# Altium schematic symbol library CPU_STM_080816.SchLib: 227 symbols (part 2 of 5)
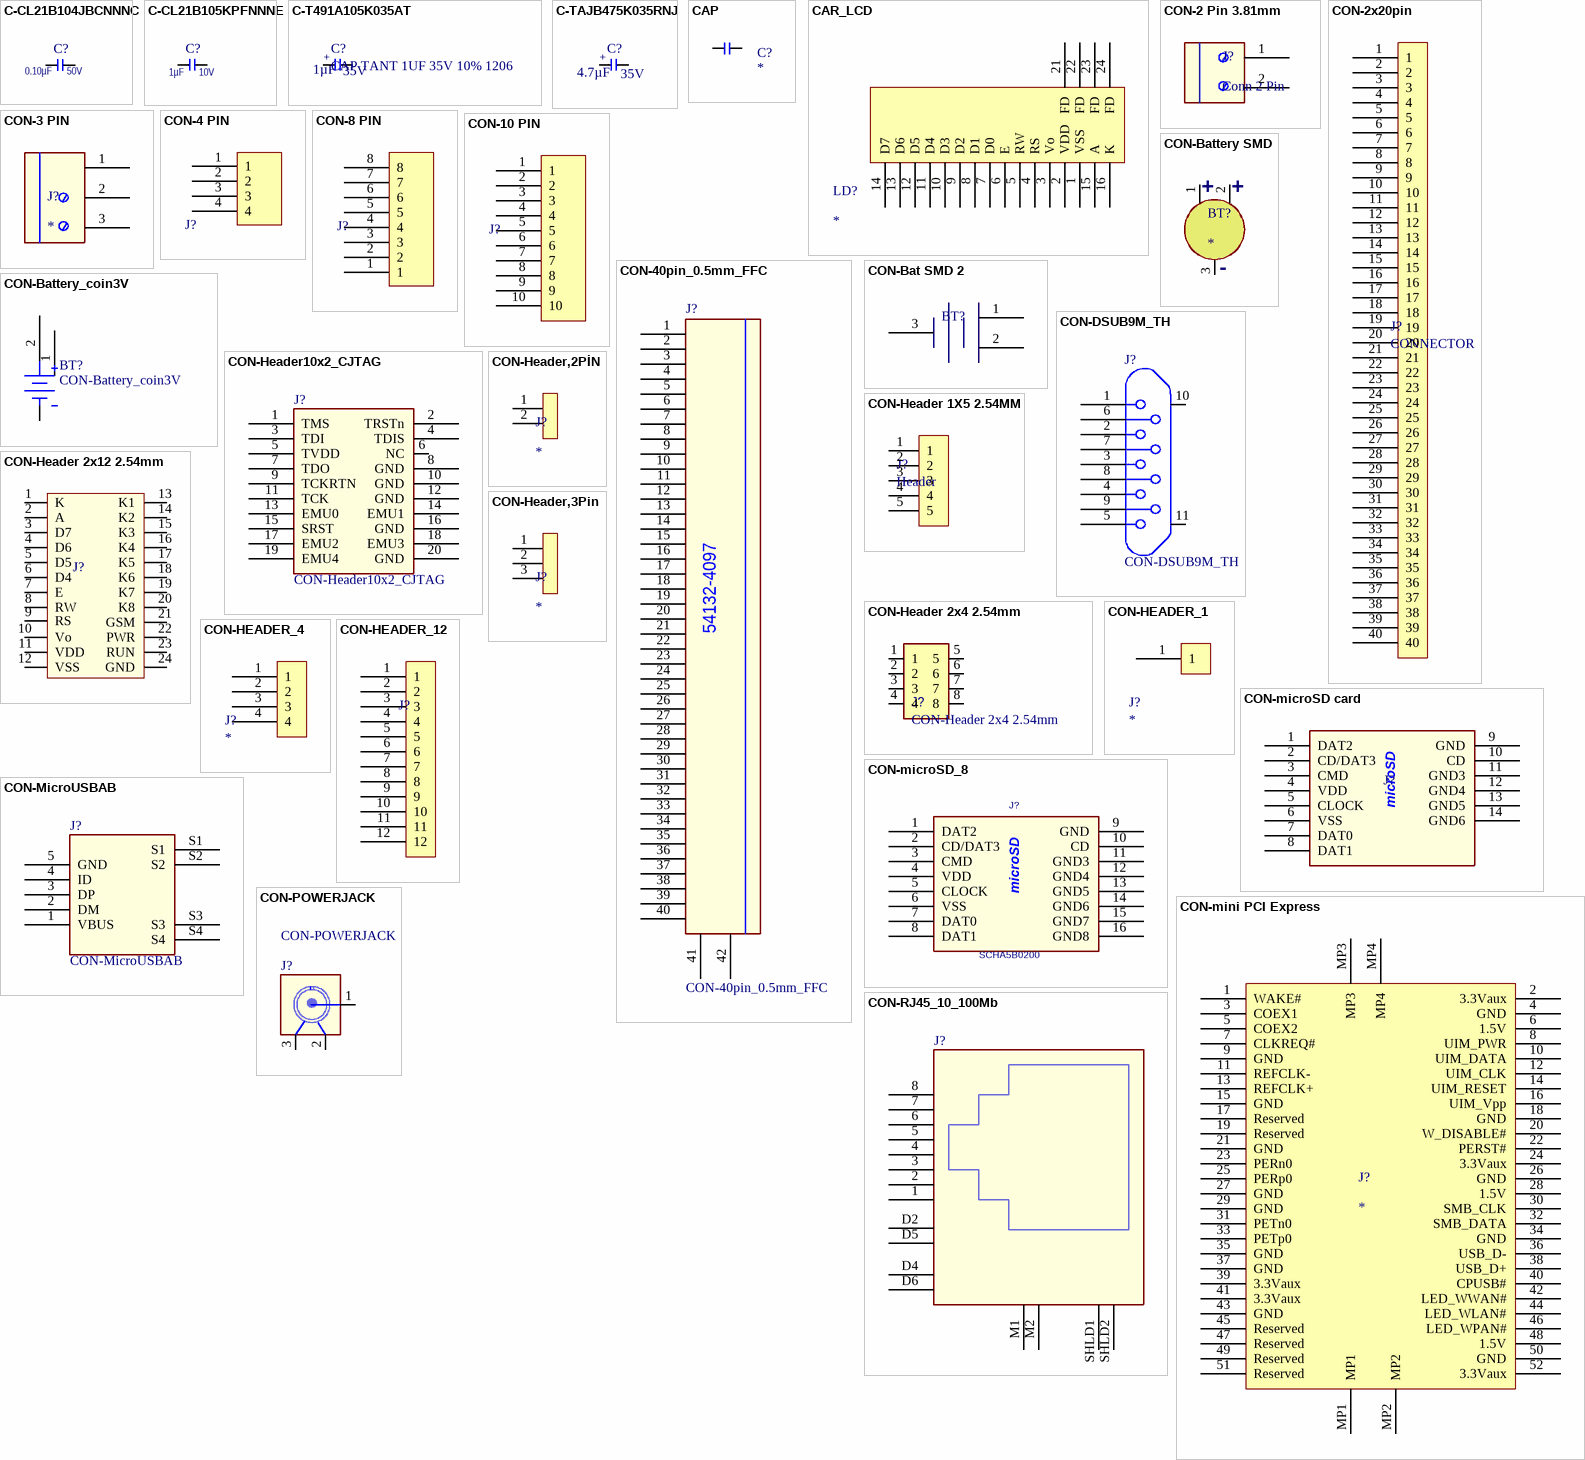
[diagram p12: symbols C-CL21B104JBCNNNC to CON-RJ45_10_100Mb]

## CON-microSD card
designator J?, comment CONN MICRO SD CARD PUSH-PUSH R/A  (value not drawn)
MOLEX 5027740891; Manufacturer: Molex, LLC; Card Type: Secure Digital - microSD™; Number of Positions: 10 (8 + 2); Connector Type: Connector and Ejector; Insertion, Removal Method: Push In, Push Out; Supplier 1: Digi-Key; Manufacturer Part Number: 5027740891; RoHS: RoHS Compliant; Category: Connectors, Interconnects; Stock 1: 0; Pricing 1: 1000=1.91922, 2000=1.85304, 3000=1.78686, 5000=1.72068 (USD); Packaging: Tape & Reel (TR); Ejector Side: -; Mounting Type: Surface Mount, Right Angle; Features: Switch; Height Above Board: 0.071" (1.80mm); Mounting Feature: Reverse - Bottom; Contact Finish: Gold; Contact Finish Thickness: 20µin (0.51µm); ComponentLink1URL: http://www.molex.com/pdm_docs/sd/5027740891_sd.pdf; ComponentLink1Description: http://www.molex.com/pdm_docs/sd/5027740891_sd.pdf; Supplier Part Number 1: WM24066TR-ND
footprint microSD (Molex-5027740891)
pins: 1 DAT2, 2 CD/DAT3, 3 CMD, 4 VDD (power), 5 CLOCK, 6 VSS (power), 7 DAT0, 8 DAT1, 9 GND (power), 10 CD, 11 GND3 (power), 12 GND4 (power), 13 GND5 (power), 14 GND6 (power)
text: microSD

## CON-microSD_8
designator J?, comment SCHA5B0200
Connector compact low-profile Push Type Micro SD; TIIntPartnumber: 2C0102; Mfr: ALPS; PartName: Conn_microSD_SCHA5B0200; Cost10K: x.00; Vendor: Mouser; DescriptiveText: Connector compact low-profile Push Type Micro SD; Cost100: x.00; MfrNum: SCHA5B0200; Supplier 1: Mouser; Supplier Part Number 1: 688-SCHA5B0200
footprint SD-MICRO-SCHA5B0300
pins: 1 DAT2, 2 CD/DAT3, 3 CMD, 4 VDD (power), 5 CLOCK, 6 VSS (power), 7 DAT0, 8 DAT1, 9 GND (power), 10 CD, 11 GND3 (power), 12 GND4 (power), 13 GND5 (power), 14 GND6 (power), 15 GND7 (power), 16 GND8 (power)
text: microSD

## CON-MicroUSBAB
designator J?
Connector Micro USB AB RA; TIIntPartnumber: 2C0088; MfrNum: ZX62-AB-5PA(11); Mfr: Hirose; Cost10K: 0.26; Cost100: 0.67; Vendor: Digikey; DescriptiveText: Connector Micro USB AB RA; PartName: ConnectorMicroUSBAB; Descriptive_Text: Connector Micro USB AB RA; Supplier 1: Digi-Key; Supplier Part Number 1: H11635CT-ND
footprint ZX62-AB-5PA
pins: 1 VBUS, 2 DM, 3 DP, 4 ID, 5 GND, S1 (power), S2 (power), S3 (power), S4 (power)

## CON-mini PCI Express
designator J?
PCI EXSPRESS; Supplier 1: Digi-Key; Supplier Part Number 1: WM3471CT-ND
footprint GSM (Board-to-Board Connector, SMT, Right Angle, Pitch 0.8mm, 52-Position, Female)
pins: 1 WAKE#, 2 3.3Vaux, 3 COEX1, 4 GND, 5 COEX2, 6 1.5V, 7 CLKREQ#, 8 UIM_PWR, 9 GND, 10 UIM_DATA, 11 REFCLK-, 12 UIM_CLK, 13 REFCLK+, 14 UIM_RESET, 15 GND, 16 UIM_Vpp, 17 Reserved, 18 GND, 19 Reserved, 20 W_DISABLE#, 21 GND, 22 PERST#, 23 PERn0, 24 3.3Vaux, 25 PERp0, 26 GND, 27 GND, 28 1.5V, 29 GND, 30 SMB_CLK, 31 PETn0, 32 SMB_DATA, 33 PETp0, 34 GND, 35 GND, 36 USB_D-, 37 GND, 38 USB_D+, 39 3.3Vaux, 40 CPUSB#, 41 3.3Vaux, 42 LED_WWAN#, 43 GND, 44 LED_WLAN#, 45 Reserved, 46 LED_WPAN#, 47 Reserved, 48 1.5V, 49 Reserved, 50 GND, 51 Reserved, 52 3.3Vaux, MP1, MP2, MP3, MP4

## CON-POWERJACK
designator J?
Jack Power Right Angle 2conductor; TIIntPartnumber: 2J0008; MfrNum: RAPC712; Mfr: Switchcraft; PartName: PwrJack_RAPC712; Cost10K: 0.90; Vendor: Digikey; DescriptiveText: Jack Power Right Angle 2conductor; Cost100: 0.90; Descriptive_Text: Jack Power Right Angle 2conductor; Supplier 1: Farnell; Supplier Part Number 1: 1617204
footprint RAPC712
pins: 1, 2, 3

## CON-RJ45_10_100Mb
designator J?  (value not drawn)
Connector MagRJ-45 Jack w/LED 10_100Mb
footprint 6605728-1
pins: 1, 2, 3, 4, 5, 6, 7, 8, D2, D4, D5, D6, M1, M2, SHLD1, SHLD2

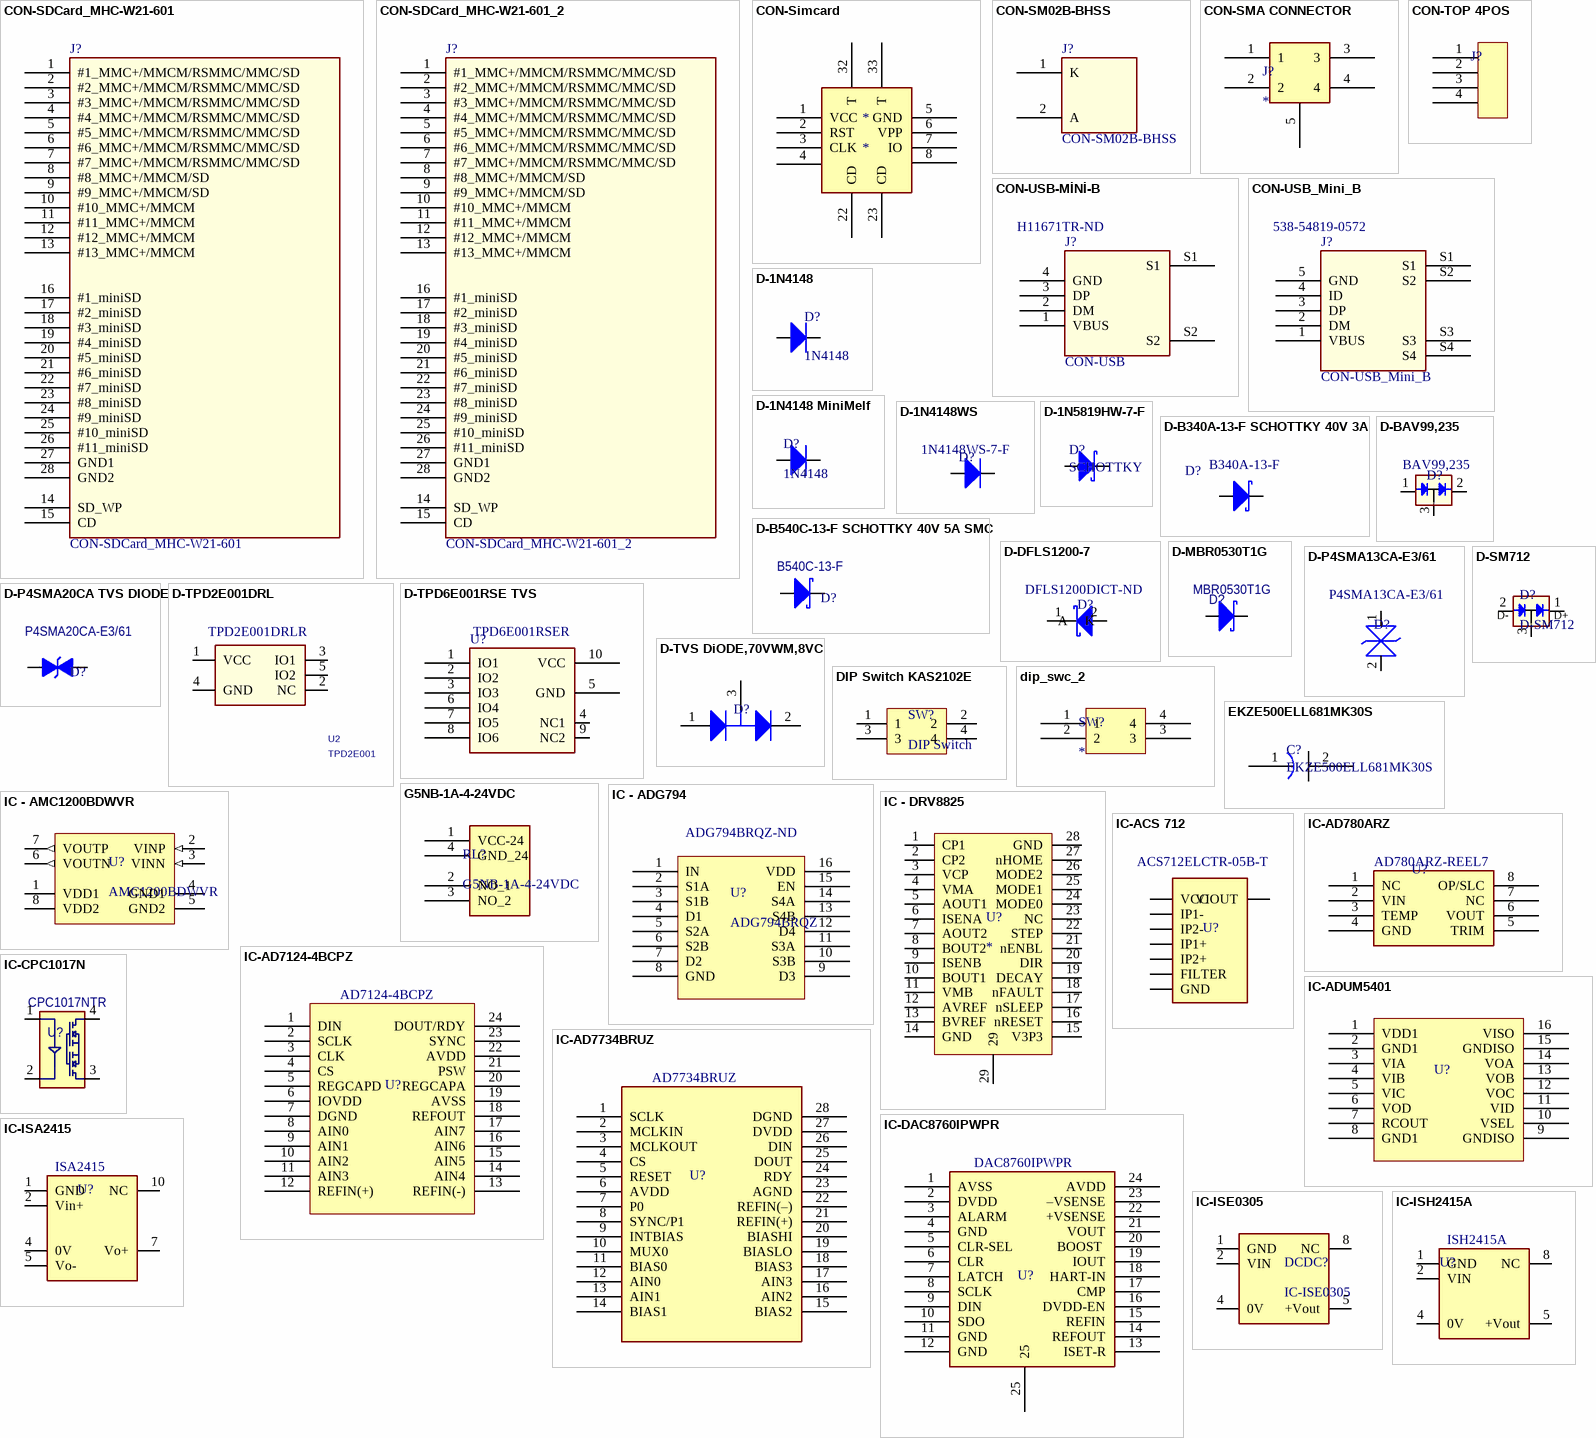
[diagram p2: symbols CON-SDCard_MHC-W21-601 to IC-ISH2415A]

## CON-SDCard_MHC-W21-601
designator J?
Connector SD/MMC; PartName: ConnectorSDMMC; Mfr: Morethanall; MfrNum: MHC-W21-601-LF; TIIntPartnumber: 2C0089; Cost100: 0.95; Cost10K: 0.29; DescriptiveText: Connector SD/MMC; Vendor: Morethanall; Descriptive_Text: Connector SD/MMC
footprint MHC-W21-601-LF
pins: 1 #1_MMC+/MMCM/RSMMC/MMC/SD, 2 #2_MMC+/MMCM/RSMMC/MMC/SD, 3 #3_MMC+/MMCM/RSMMC/MMC/SD, 4 #4_MMC+/MMCM/RSMMC/MMC/SD, 5 #5_MMC+/MMCM/RSMMC/MMC/SD, 6 #6_MMC+/MMCM/RSMMC/MMC/SD, 7 #7_MMC+/MMCM/RSMMC/MMC/SD, 8 #8_MMC+/MMCM/SD, 9 #9_MMC+/MMCM/SD, 10 #10_MMC+/MMCM, 11 #11_MMC+/MMCM, 12 #12_MMC+/MMCM, 13 #13_MMC+/MMCM, 14 SD_WP, 15 CD, 16 #1_miniSD, 17 #2_miniSD, 18 #3_miniSD, 19 #4_miniSD, 20 #5_miniSD, 21 #6_miniSD, 22 #7_miniSD, 23 #8_miniSD, 24 #9_miniSD, 25 #10_miniSD, 26 #11_miniSD, 27 GND1, 28 GND2

## CON-SDCard_MHC-W21-601_2
designator J?
Connector SD/MMC; PartName: ConnectorSDMMC; Mfr: Morethanall; MfrNum: MHC-W21-601-LF; TIIntPartnumber: 2C0089; Cost100: 0.95; Cost10K: 0.29; DescriptiveText: Connector SD/MMC; Vendor: Morethanall; Descriptive_Text: Connector SD/MMC
footprint MHC-W21-601-LF
pins: 1 #1_MMC+/MMCM/RSMMC/MMC/SD, 2 #2_MMC+/MMCM/RSMMC/MMC/SD, 3 #3_MMC+/MMCM/RSMMC/MMC/SD, 4 #4_MMC+/MMCM/RSMMC/MMC/SD, 5 #5_MMC+/MMCM/RSMMC/MMC/SD, 6 #6_MMC+/MMCM/RSMMC/MMC/SD, 7 #7_MMC+/MMCM/RSMMC/MMC/SD, 8 #8_MMC+/MMCM/SD, 9 #9_MMC+/MMCM/SD, 10 #10_MMC+/MMCM, 11 #11_MMC+/MMCM, 12 #12_MMC+/MMCM, 13 #13_MMC+/MMCM, 14 SD_WP, 15 CD, 16 #1_miniSD, 17 #2_miniSD, 18 #3_miniSD, 19 #4_miniSD, 20 #5_miniSD, 21 #6_miniSD, 22 #7_miniSD, 23 #8_miniSD, 24 #9_miniSD, 25 #10_miniSD, 26 #11_miniSD, 27 GND1, 28 GND2

## CON-Simcard
designator *
footprint SIMCARD
pins: 1 VCC, 2 RST, 3 CLK, 4, 5 GND, 6 VPP, 7 IO, 8, 22 CD, 23 CD, 32 T, 33 T

## CON-SM02B-BHSS
designator J?
Connector BHS Series 2pin PCB; TIIntPartnumber: 2C0093; MfrNum: SM02B-BHSS-1-TB; Mfr: JST; PartName: Conn_SM02B-BHSS; Cost10K: 0.82; Cost100: 1.74; Vendor: Digikey; Descriptive_Text: Connector BHS Series 2pin PCB; DescriptiveText: Connector BHS Series 2pin PCB; Supplier 1: Digi-Key; Supplier Part Number 1: 455-2876-6-ND
footprint sm_con_sm02b_bhss-1
pins: 1 K, 2 A

## CON-SMA CONNECTOR
designator J?
SMA
footprint SMA
pins: 1, 2, 3, 4, 5

## CON-TOP 4POS
designator J?
CONN FFC FPC TOP 4POS 1.00MM R/A; Manufacturer: Molex, LLC; Manufacturer Part Number: 0522070460; Flat Flex Type: FFC, FPC; Connector/Contact Type: Contacts, Top; Number of Positions: 4; Pitch: 0.039" (1.00mm); FFC, FCB Thickness: 0.30mm; Locking Feature: Slide Lock; Cable End Type: Tapered; Actuator Material: Polyphenylene Sulfide (PPS); Voltage Rating: 125V; Material Flammability Rating: UL94 V-0; Current Rating: 1A; Supplier 1: Digi-Key; RoHS: RoHS Compliant; Category: Connectors, Interconnects; Stock 1: 3025; Pricing 1: 1=1, 10=0.879, 25=0.8268, 50=0.7924, 100=0.7579, 250=0.68904, 500=0.62014 (USD); Packaging: Cut Tape (CT); Mounting Type: Surface Mount, Right Angle; Termination: Solder; Height Above Board: 0.106" (2.70mm); Contact Material: Phosphor Bronze; Contact Finish: Gold; Housing Material: Polyamide (PA46), Nylon 4/6; Features: Solder Retention, Zero Insertion Force (ZIF); Operating Temperature: -30°C ~ 85°C; ComponentLink1URL: http://www.molex.com/pdm_docs/sd/522070460_sd.pdf; ComponentLink1Description: http://www.molex.com/pdm_docs/sd/522070460_sd.pdf; Supplier Part Number 1: WM3749CT-ND
footprint HEADER,3PİN
pins: 1, 2, 3, 4

## CON-USB-MİNİ-B
designator J?, comment CON-USB  Supplier Part Number 1: H11671TR-ND
CONN RCPT USB MINI B R/A SMD; Manufacturer: Hirose Electric Co Ltd; Manufacturer Part Number: UX60SC-MB-5ST(80); Connector Type: USB - mini B; Number of Contacts: 5; Gender: Receptacle; Specifications: USB 2.0; Supplier 1: Digi-Key; RoHS: RoHS Compliant; Category: Connectors, Interconnects; Stock 1: 37500; Pricing 1: 1500=0.375, 3000=0.3625, 7500=0.35, 10500=0.3325, 15000=0.325 (USD); Packaging: Tape & Reel (TR); Mounting Type: Surface Mount, Right Angle, Horizontal; Features: Solder Retention; Ingress Protection: -; ComponentLink1URL: http://media.digikey.com/pdf/Data%20Sheets/Hirose%20PDFs/UX60S.pdf; ComponentLink1Description: http://media.digikey.com/pdf/Data%20Sheets/Hirose%20PDFs/UX60S.pdf
footprint usb_std_a_th (USB_STD_A_TH)
pins: 1 VBUS, 2 DM, 3 DP, 4 GND, S1 (power), S2 (power)

## CON-USB_Mini_B
designator J?  Supplier Part Number 1: 538-54819-0572
Connector MicroUSB AB; TIIntPartnumber: 2C0088; MfrNum: ZX62-AB-5PA(11); Mfr: Hirose; Manufacturer: Molex; Manufacturer Part Number: 54819-0572; DescriptiveText: Connector Micro USB AB RA; Cost10K: 0.26; Cost100: 0.67; Vendor: Digikey; Connector Type: Mini USB Type B Receptacle; Current Rating: 1 A; Gender: Female; Mounting Angle: Right; Number of Contacts: 5; Voltage Rating: 30 V; Insulator Colour: Black; Number of Ports: 1; Insulation Resistance: 100 MOhms; PartName: ConnectorMicroUSBAB; Descriptive_Text: Connector Micro USB AB RA; Supplier 1: Mouser; RoHS: RoHS Compliant; Category: USB Connectors; Stock 1: 15341; Pricing 1: 1=1.46, 10=1.35, 25=1.24, 50=1.19, 100=1.11, 250=0.999, 500=0.847, 800=0.723, 1600=0.704 (USD); Color: Black; Contact Plating: Gold; Features: Metal shielding for ESD protection; Operating Temperature Range: 0 C to + 50 C; Packaging: Reel; Product: Mini USB Type B Connectors; Series: 54819; Termination Style: Solder Tab; Brand: Molex; Contact Material: Copper Alloy; Flammability Rating: UL 94 V-0; Product Category: USB Connectors; Standard: USB; Standard Pack Qty: 800; RoHS - Mouser: Y; Minimum Order Quantity: 1; Reeling: True; ComponentLink1URL: http://www.mouser.com/ds/2/276/0548190572_IO_CONNECTORS-228789.pdf; ComponentLink1Description: http://www.mouser.com/ds/2/276/0548190572_IO_CONNECTORS-228789.pdf
footprint USB MINI TYPE B
pins: 1 VBUS, 2 DM, 3 DP, 4 ID, 5 GND, S1 (power), S2 (power), S3 (power), S4 (power)

## D-1N4148
designator D?, comment value 1N4148  (hidden comment: 1N4148_RAD)
Small signal diode; Supplier 1: Farnell; Supplier Part Number 1: 9843680
footprint HEADER,2PİN
pins: 1, 2

## D-1N4148 MiniMelf
designator D?, comment 1N4148
DIODES INC. - 1N4148WS-7-F - DIODE, SS SWITCH, 75V, 0.2W, SOD323; Manufacturer: Vishay Semiconductor Diodes Division; Manufacturer Part Number: LL4148-GS18; Diode Type: Standard; Current - Average Rectified (Io): 300mA (DC); Voltage - Forward (Vf) (Max) @ If: 1V @ 50mA; Speed: Fast Recovery =< 500ns, > 200mA (Io); Reverse Recovery Time (trr): 4ns; Current - Reverse Leakage @ Vr: 5µA @ 75V; Capacitance @ Vr, F: 4pF @ 0V, 1MHz; Diode Configuration: Single; Repetitive Reverse Voltage Vrrm Max: 75; Forward Current If(AV): 150; Forward Voltage VF Max: 1.25; Reverse Recovery Time trr Max: 4; Forward Surge Current Ifsm Max: 2; Diode Case Style: SOD-323; Product Range: 1N4148 Series; SVHC: No SVHC (17-Dec-2015); Supplier 1: Digi-Key; RoHS: RoHS Compliant; Category: Discrete Semiconductor Products; Stock 1: 30000; Pricing 1: 10000=0.019, 30000=0.0171, 50000=0.0152, 100000=0.01425, 250000=0.01264 (USD); Packaging: Tape & Reel (TR); Voltage - DC Reverse (Vr) (Max): 75V; Mounting Type: Surface Mount; Package / Case: DO-213AC, MINI-MELF, SOD-80; Supplier Device Package: SOD-80 MiniMELF; Operating Temperature - Junction: -65°C ~ 175°C; ComponentLink1URL: http://www.vishay.com/docs/85557/ll4148.pdf; ComponentLink1Description: http://www.vishay.com/docs/85557/ll4148.pdf; Operating Temperature Max: 150; No. of Pins: 2; MSL: MSL 1 - Unlimited; Operating Temperature Min: -65; Operating Temperature Range: -65°C to +150°C<!--FANDB--><div class="features-and-benefits-container"><div class="features-and-benefits-description"><span class="features-benefits-value">The 1N4148WS-7-F is a surface mount fast Switching Diode with matte tin-plated terminals and an UL94V-0 green molding compound molded plastic case. Solderable terminals as per MIL-STD-202, method 208 standard. Color band denotes cathode end polarity. It is suitable for general purpose switching applications.</span></div><div class="features-and-benefits-list"><ul class="features-and-benefits-list-list"><li class="features-and-benefits-list-item">Fast switching speed</li><li class="features-and-benefits-list-item">100V Non-repetitive peak reverse voltage</li><li class="features-and-benefits-list-item">53V RMS reverse voltage</li><li class="features-and-benefits-list-item">200mW Power dissipation</li><li class="features-and-benefits-list-item">625; ComponentLink2URL: http://www.farnell.com/datasheets/1911818.pdf; ComponentLink2Description: http://www.farnell.com/datasheets/1911818.pdf; Supplier Part Number 1: LL4148-GS18TR-ND
footprint D1N4148 MiniMelf
pins: 1, 2

## D-1N4148WS
designator D?  Manufacturer Part Number: 1N4148WS-7-F  (hidden comment: D-1N4148WS)
DIODES INC. - 1N4148WS-7-F - DIODE, SS SWITCH, 75V, 0.2W, SOD323; Diode Configuration: Single; Repetitive Reverse Voltage Vrrm Max: 75; Forward Current If(AV): 150; Forward Voltage VF Max: 1.25; Reverse Recovery Time trr Max: 4; Forward Surge Current Ifsm Max: 2; Diode Case Style: SOD-323; Product Range: 1N4148 Series; SVHC: No SVHC (17-Dec-2015); Diode Type: Switching; Supplier 1: Farnell; Manufacturer: DIODES INC.; RoHS: YES; Stock 1: 52116; Pricing 1: 1=0.186, 25=0.142, 100=0.0928, 250=0.0514, 500=0.0433, 1000=0.0256, 3000=0.025, 8000=0.0239 (GBP); Operating Temperature Max: 150; No. of Pins: 2; Packaging: Cut Tape; MSL: MSL 1 - Unlimited; Operating Temperature Min: -65; Operating Temperature Range: -65°C to +150°C<!--FANDB--><div class="features-and-benefits-container"><div class="features-and-benefits-description"><span class="features-benefits-value">The 1N4148WS-7-F is a surface mount fast Switching Diode with matte tin-plated terminals and an UL94V-0 green molding compound molded plastic case. Solderable terminals as per MIL-STD-202, method 208 standard. Color band denotes cathode end polarity. It is suitable for general purpose switching applications.</span></div><div class="features-and-benefits-list"><ul class="features-and-benefits-list-list"><li class="features-and-benefits-list-item">Fast switching speed</li><li class="features-and-benefits-list-item">100V Non-repetitive peak reverse voltage</li><li class="features-and-benefits-list-item">53V RMS reverse voltage</li><li class="features-and-benefits-list-item">200mW Power dissipation</li><li class="features-and-benefits-list-item">625; ComponentLink1URL: http://www.farnell.com/datasheets/1911818.pdf; ComponentLink1Description: http://www.farnell.com/datasheets/1911818.pdf; Supplier Part Number 1: 1843678
footprint SOD-323
pins: 1, 2

## D-1N5819HW-7-F
designator D?, comment SCHOTTKY
Schottky Diodes & Rectifiers Vr/40V Io/1A T/R; Manufacturer: Diodes Incorporated; Manufacturer Part Number: 1N5819HW-7-F; Configuration: Single; If - Forward Current: 1 A; Ifsm - Forward Surge Current: 25 A; Ir - Reverse Current: 1000 uA; Pd - Power Dissipation: 450 mW; Vf - Forward Voltage: 0.75 V at 3 A; Vrrm - Repetitive Reverse Voltage: 40 V; Supplier 1: Mouser; RoHS: RoHS Compliant; Category: Schottky Diodes & Rectifiers; Stock 1: 158001; Pricing 1: 1=0.524, 10=0.296, 100=0.126, 1000=0.098, 3000=0.074, 9000=0.066, 24000=0.062, 45000=0.054, 99000=0.051 (USD); Package/Case: SOD-123; Packaging: Reel; Product: Schottky Rectifiers; Series: 1N5819; Technology: Si; Brand: Diodes Incorporated; Mounting Style: SMD/SMT; Maximum Operating Temperature: + 125 C; Minimum Operating Temperature: - 65 C; Product Category: Rectifier - Schottky; Standard Pack Qty: 3000; RoHS - Mouser: Y; Minimum Order Quantity: 1; Reeling: True; ComponentLink1URL: http://www.mouser.com/ds/2/115/ds30217-71027.pdf; ComponentLink1Description: http://www.mouser.com/ds/2/115/ds30217-71027.pdf; Supplier Part Number 1: 621-1N5819HW-F
pins: 1, 2

## D-B340A-13-F SCHOTTKY 40V 3A
designator D?  Manufacturer Part Number: B340A-13-F  (hidden comment: D-B340A-13-F SCHOTTKY 40V 3A)
DIODE SCHOTTKY 40V 3A SMA; Manufacturer: Diodes Incorporated; Voltage - Forward (Vf) (Max) @ If: 500mV @ 3A; Speed: Fast Recovery =< 500ns, > 200mA (Io); Current - Reverse Leakage @ Vr: 500µA @ 40V; Capacitance @ Vr, F: 200pF @ 4V, 1MHz; Supplier 1: Digi-Key; RoHS: RoHS Compliant; Category: Discrete Semiconductor Products; Stock 1: 361505; Pricing 1: 1=0.42, 10=0.339, 100=0.231, 500=0.1729, 1000=0.1295 (USD); Packaging: Cut Tape (CT); Diode Type: Schottky; Voltage - DC Reverse (Vr) (Max): 40V; Current - Average Rectified (Io): 3A; Reverse Recovery Time (trr): -; Mounting Type: Surface Mount; Package / Case: DO-214AC, SMA; Supplier Device Package: SMA; Operating Temperature - Junction: -55°C ~ 150°C; ComponentLink1URL: http://www.diodes.com/_files/datasheets/ds30891.pdf; ComponentLink1Description: http://www.diodes.com/_files/datasheets/ds30891.pdf; Supplier Part Number 1: B340A-FDICT-ND
footprint Diode
pins: 1, 2

## D-B540C-13-F SCHOTTKY 40V 5A SMC
designator D?, comment B540C-13-F
DIODE SCHOTTKY 40V 5A SMC; Manufacturer: Diodes Incorporated; Voltage - Forward (Vf) (Max) @ If: 550mV @ 5A; Speed: Fast Recovery =< 500ns, > 200mA (Io); Current - Reverse Leakage @ Vr: 500µA @ 40V; Capacitance @ Vr, F: 300pF @ 4V, 1MHz; Diode Configuration: 1 Pair Series Connection; Current - Average Rectified (Io) (per Diode): 215mA (DC); Supplier 1: Digi-Key; RoHS: RoHS Compliant; Category: Discrete Semiconductor Products; Stock 1: 21029; Pricing 1: 1=0.5, 10=0.426, 100=0.3179, 500=0.2497, 1000=0.1925 (USD); Packaging: Cut Tape (CT); Diode Type: Schottky; Voltage - DC Reverse (Vr) (Max): 40V; Current - Average Rectified (Io): 5A; Reverse Recovery Time (trr): -; Mounting Type: Surface Mount; Package / Case: DO-214AB, SMC; Supplier Device Package: SMC; Operating Temperature - Junction: -55°C ~ 125°C; ComponentLink1URL: http://www.diodes.com/_files/datasheets/ds13012.pdf; ComponentLink1Description: http://www.diodes.com/_files/datasheets/ds13012.pdf; Supplier Part Number 1: B540C-FDICT-ND; Supplier 2: Digi-Key; Stock 2: 58594; Pricing 2: 1=0.13, 10=0.115, 100=0.0626, 500=0.0385, 1000=0.02627 (USD); ComponentLink2URL: http://www.nxp.com/documents/data_sheet/BAV99_SER.pdf; ComponentLink2Description: http://www.nxp.com/documents/data_sheet/BAV99_SER.pdf; Supplier Part Number 2: 568-5005-1-ND; Manufacturer Part Number: B540C-13-F
footprint B520C-13-F
pins: 1, 2

## D-BAV99,235
designator D?, comment Manufacturer Part Number: BAV99,235  (hidden comment: BAV99)
DIODE ARRAY GP 100V 215MA SOT23; Manufacturer: NXP Semiconductors; Diode Configuration: 1 Pair Series Connection; Diode Type: Standard; Current - Average Rectified (Io) (per Diode): 215mA (DC); Voltage - Forward (Vf) (Max) @ If: 1.25V @ 150mA; Speed: Fast Recovery =< 500ns, > 200mA (Io); Reverse Recovery Time (trr): 4ns; Current - Reverse Leakage @ Vr: 500nA @ 80V; Supplier 1: Digi-Key; RoHS: RoHS Compliant; Category: Discrete Semiconductor Products; Stock 1: 40000; Pricing 1: 10000=0.017, 30000=0.0153, 50000=0.0136, 100000=0.01275, 250000=0.01131 (USD); Packaging: Tape & Reel (TR); Voltage - DC Reverse (Vr) (Max): 100V; Mounting Type: Surface Mount; Package / Case: TO-236-3, SC-59, SOT-23-3; Supplier Device Package: SOT-23 (TO-236AB); ComponentLink1URL: http://www.nxp.com/documents/data_sheet/BAV99_SER.pdf; ComponentLink1Description: http://www.nxp.com/documents/data_sheet/BAV99_SER.pdf; Supplier Part Number 1: 568-5005-2-ND
footprint SOT23-3 - Number (SOT23-3)
pins: 1 D+ (power), 2 D- (power), 3 (power)

## D-DFLS1200-7
designator D?  Supplier Part Number 1: DFLS1200DICT-ND  (hidden comment: D-DFLS1200-7)
DIODE SCHOTTKY 200V POWERDI123; Manufacturer: Diodes Incorporated; Current - Average Rectified (Io): 1A; Voltage - Forward (Vf) (Max) @ If: 850mV @ 1A; Speed: Fast Recovery =< 500ns, > 200mA (Io); Current - Reverse Leakage @ Vr: 2µA @ 200V; Capacitance @ Vr, F: 23pF @ 5V, 1MHz; Supplier 1: Digi-Key; Manufacturer Part Number: DFLS1200-7; RoHS: RoHS Compliant; Category: Discrete Semiconductor Products; Stock 1: 18044; Pricing 1: 1=0.61, 10=0.522, 100=0.3902, 500=0.30646, 1000=0.23625 (USD); Packaging: Cut Tape (CT); Diode Type: Schottky; Voltage - DC Reverse (Vr) (Max): 200V; Reverse Recovery Time (trr): -; Mounting Type: Surface Mount; Package / Case: POWERDI®123; Supplier Device Package: PowerDI™ 123; Operating Temperature - Junction: -65°C ~ 175°C; ComponentLink1URL: http://www.diodes.com/_files/datasheets/ds30628.pdf; ComponentLink1Description: http://www.diodes.com/_files/datasheets/ds30628.pdf
footprint DFLS1200
pins: 1 K, 2 A

## D-MBR0530T1G
designator D?, comment Manufacturer Part Number: MBR0530T1G  (hidden comment: DIODE SCHOTTKY)
DIODE SCHOTTKY 30V 500MA SOD123; Manufacturer: ON Semiconductor; Voltage - Forward (Vf) (Max) @ If: 430mV @ 500mA; Speed: Fast Recovery =< 500ns, > 200mA (Io); Current - Reverse Leakage @ Vr: 130µA @ 30V; Supplier 1: Digi-Key; RoHS: RoHS Compliant; Category: Discrete Semiconductor Products; Stock 1: 95340; Pricing 1: 1=0.36, 10=0.294, 100=0.1556, 500=0.1023, 1000=0.0697 (USD); Packaging: Cut Tape (CT); Diode Type: Schottky; Voltage - DC Reverse (Vr) (Max): 30V; Current - Average Rectified (Io): 500mA; Reverse Recovery Time (trr): -; Capacitance @ Vr, F: -; Mounting Type: Surface Mount; Package / Case: SOD-123; Supplier Device Package: SOD-123; Operating Temperature - Junction: -65°C ~ 125°C; ComponentLink1URL: http://www.onsemi.com/pub_link/Collateral/MBR0530T1-D.PDF; ComponentLink1Description: http://www.onsemi.com/pub_link/Collateral/MBR0530T1-D.PDF; Supplier Part Number 1: MBR0530T1GOSCT-ND
footprint SOD-123
pins: 1, 2

## D-P4SMA13CA-E3/61
designator D?, comment P4SMA13CA-E3/61
TVS DIODE 11.1VWM 18.2VC SMA; Manufacturer: Vishay Semiconductor Diodes Division; Type: Zener; Bidirectional Channels: 1; Voltage - Reverse Standoff (Typ): 11.1V; Voltage - Breakdown (Min): 12.4V; Voltage - Clamping (Max) @ Ipp: 18.2V; Current - Peak Pulse (10/1000µs): 22A; Power - Peak Pulse: 400W; Power Line Protection: No; Supplier 1: Digi-Key; RoHS: RoHS Compliant; Category: Circuit Protection; Stock 1: 1800; Pricing 1: 1=0.36, 10=0.29, 25=0.2656, 100=0.1978, 250=0.17924, 500=0.14832 (USD); Packaging: Cut Tape (CT); Unidirectional Channels: -; Applications: General Purpose; Capacitance @ Frequency: -; Operating Temperature: -65°C ~ 150°C (TJ); Mounting Type: Surface Mount; Package / Case: DO-214AC, SMA; Supplier Device Package: DO-214AC (SMA); ComponentLink1URL: http://www.vishay.com/docs/88367/p4sma.pdf; ComponentLink1Description: http://www.vishay.com/docs/88367/p4sma.pdf; Supplier Part Number 1: P4SMA13CA-E3/61GICT-ND; Manufacturer Part Number: P4SMA13CA-E3/61
footprint DO-214
pins: 1, 2

## D-P4SMA20CA TVS DIODE
designator D?, comment Manufacturer Part Number: P4SMA20CA-E3/61  (hidden comment: TVS DIODE 15VWM 24.4VC SMC)
TVS DIODE 17.1VWM 27.7VC SMA; Manufacturer: Vishay Semiconductor Diodes Division; Type: Zener; Bidirectional Channels: 1; Voltage - Reverse Standoff (Typ): 17.1V; Voltage - Breakdown (Min): 19V; Voltage - Clamping (Max) @ Ipp: 27.7V; Current - Peak Pulse (10/1000µs): 14.4A; Power - Peak Pulse: 400W; Power Line Protection: No; Supplier 1: Digi-Key; RoHS: RoHS Compliant; Category: Circuit Protection; Stock 1: 729; Pricing 1: 1=0.36, 10=0.29, 25=0.2656, 100=0.1978, 250=0.17924, 500=0.14832 (USD); Packaging: Digi-Reel®; Part Status: Active; Unidirectional Channels: -; Applications: General Purpose; Capacitance @ Frequency: -; Operating Temperature: -65°C ~ 150°C (TJ); Mounting Type: Surface Mount; Package / Case: DO-214AC, SMA; Supplier Device Package: DO-214AC (SMA); ComponentLink1URL: http://www.vishay.com/docs/88367/p4sma.pdf; ComponentLink1Description: http://www.vishay.com/docs/88367/p4sma.pdf; Supplier Part Number 1: P4SMA20CA-E3/61GIDKR-ND
footprint DO-214Ac
pins: 1 CATHODE, 2 ANODE

## D-SM712
designator D?
TVS DIODE 12VWM 21VC SOT23; Manufacturer: Micro Commercial Co; Manufacturer Part Number: SM712-TP; Type: Zener; Bidirectional Channels: 2; Voltage - Reverse Standoff (Typ): 12V (Max); Voltage - Breakdown (Min): 13.3V; Voltage - Clamping (Max) @ Ipp: 21V; Current - Peak Pulse (10/1000µs): 5A (8/20µs); Power - Peak Pulse: 400W; Power Line Protection: No; Capacitance @ Frequency: 45pF @ 1MHz; Supplier 1: Digi-Key; RoHS: RoHS Compliant; Category: Circuit Protection; Stock 1: 35845; Pricing 1: 1=1.08, 10=0.957, 25=0.864, 100=0.756, 250=0.663, 500=0.588, 1000=0.465 (USD); Packaging: Cut Tape (CT); Unidirectional Channels: -; Applications: General Purpose; Operating Temperature: -55°C ~ 150°C (TJ); Mounting Type: Surface Mount; Package / Case: TO-236-3, SC-59, SOT-23-3; Supplier Device Package: SOT-23; ComponentLink1URL: http://www.mccsemi.com/up_pdf/SM712(SOT-23).pdf; ComponentLink1Description: http://www.mccsemi.com/up_pdf/SM712(SOT-23).pdf; Supplier Part Number 1: SM712-TPMSCT-ND
footprint SM712 Sot23-3
pins: 1 D+ (power), 2 D- (power), 3 (power)

## D-TPD2E001DRL
designator U2, comment TPD2E001  Manufacturer Part Number: TPD2E001DRLR
TVS DIODE 5.5VWM 100VC SOT5; Manufacturer: Texas Instruments; Bidirectional Channels: 2; Voltage - Reverse Standoff (Typ): 5.5V (Max); Voltage - Breakdown (Min): 11V; Power Line Protection: Yes; Supplier 1: Digi-Key; RoHS: RoHS Compliant; Category: Circuit Protection; Stock 1: 34192; Pricing 1: 1=0.58, 10=0.495, 100=0.3699, 500=0.29056, 1000=0.224 (USD); Packaging: Cut Tape (CT); Type: Steering (Rail to Rail); Unidirectional Channels: -; Voltage - Clamping (Max) @ Ipp: -; Current - Peak Pulse (10/1000µs): -; Power - Peak Pulse: -; Applications: Ethernet; Capacitance @ Frequency: -; Operating Temperature: -40°C ~ 85°C (TA); Mounting Type: Surface Mount; Package / Case: SOT-553; Supplier Device Package: 5-SOT; ComponentLink1URL: http://www.ti.com/lit/ds/symlink/tpd2e001.pdf; ComponentLink1Description: http://www.ti.com/lit/ds/symlink/tpd2e001.pdf; Supplier Part Number 1: 296-21883-1-ND
footprint U_5_DRL
pins: 1 VCC (power), 2 NC, 3 IO1, 4 GND (power), 5 IO2

## D-TPD6E001RSE TVS
designator U?  Manufacturer Part Number: TPD6E001RSER  (hidden comment: *)
TVS DIODE 10UQFN; Manufacturer: Texas Instruments; Bidirectional Channels: 6; Voltage - Reverse Standoff (Typ): 5V (Max); Voltage - Breakdown (Min): 11V; Power Line Protection: Yes; Supplier 1: Digi-Key; RoHS: RoHS Compliant; Category: Circuit Protection; Stock 1: 43728; Pricing 1: 1=0.54, 10=0.464, 100=0.3468, 500=0.2724, 1000=0.21 (USD); Packaging: Cut Tape (CT); Type: Steering (Rail to Rail); Unidirectional Channels: -; Voltage - Clamping (Max) @ Ipp: -; Current - Peak Pulse (10/1000µs): -; Power - Peak Pulse: -; Applications: General Purpose; Capacitance @ Frequency: -; Operating Temperature: -40°C ~ 85°C (TA); Mounting Type: Surface Mount; Package / Case: 10-UFQFN; Supplier Device Package: 10-UQFN (2.0x1.5); ComponentLink1URL: http://www.ti.com/lit/ds/symlink/tpd6e001.pdf; ComponentLink1Description: http://www.ti.com/lit/ds/symlink/tpd6e001.pdf; Supplier Part Number 1: 296-21888-1-ND
footprint U_10_RSE
pins: 1 IO1, 2 IO2, 3 IO3, 4 NC1, 5 GND (power), 6 IO4, 7 IO5, 8 IO6, 9 NC2, 10 VCC (power)

## D-TVS DiODE,70VWM,8VC
designator D?, comment DESD1P0RFW-7  (value not drawn)
TVS DIODE 70VWM 8VC SOT323; Manufacturer: Diodes Incorporated; Type: Steering (Rail to Rail); Bidirectional Channels: 1; Voltage - Reverse Standoff (Typ): 70V (Max); Voltage - Clamping (Max) @ Ipp: 8V; Current - Peak Pulse (10/1000µs): 15A (8/20µs); Power Line Protection: No; Capacitance @ Frequency: 1pF @ 1MHz; Supplier 1: Digi-Key; Manufacturer Part Number: DESD1P0RFW-7; RoHS: RoHS Compliant; Category: Circuit Protection; Stock 1: 9057; Pricing 1: 1=0.48, 10=0.354, 100=0.2004, 500=0.13288, 1000=0.10191 (USD); Packaging: Cut Tape (CT); Part Status: Active; Unidirectional Channels: -; Voltage - Breakdown (Min): -; Power - Peak Pulse: -; Applications: General Purpose; Operating Temperature: -65°C ~ 150°C (TJ); Mounting Type: Surface Mount; Package / Case: SC-70, SOT-323; Supplier Device Package: SOT-323; ComponentLink1URL: http://www.diodes.com/_files/datasheets/DESD1P0RFW.pdf; ComponentLink1Description: http://www.diodes.com/_files/datasheets/DESD1P0RFW.pdf; Supplier Part Number 1: DESD1P0RFW-7DICT-ND
footprint NXP-SOT323_M (SOT23, 3-Leads, Body 2.2x1.35mm, Pitch 0.65mm, IPC Low Density)
pins: 1 A, 2 K, 3 C

## DIP Switch KAS2102E
designator SW?, comment DIP Switch
SWITCH SLIDE DIP SPST 25MA 24V; Manufacturer: E-Switch; Manufacturer Part Number: KAS2102ET; Number of Positions: 2; Voltage Rating: 24VDC; Actuator Type: Slide (Standard); Actuator Level: Raised; Pitch: 0.100" (2.54mm), Full; Washable: Yes; Body Material: Polybutylene Terephthalate (PBT), Glass Filled; Mechanical Life: 2,000 Cycles; Supplier 1: Digi-Key; RoHS: RoHS Compliant; Category: Switches; Stock 1: 10973; Pricing 1: 1=1.47, 10=1.387, 50=1.2452, 100=1.2169, 250=1.0754, 500=1.0188, 1000=0.9056, 5000=0.7924 (USD); Packaging: Tube; Circuit: SPST; Current Rating: 25mA; Contact Material: Phosphor Bronze; Contact Finish: Gold; Height Above Board: 0.389" (9.90mm); Mounting Type: Through Hole, Right Angle; Termination Style: PC Pin; Features: Tape Seal; Length: 0.254" (6.44mm); Operating Temperature: -40°C ~ 85°C; Electrical Life: 2,000 Cycles; ComponentLink1URL: http://spec_sheets.e-switch.com/specs/N321021.pdf; ComponentLink1Description: http://spec_sheets.e-switch.com/specs/N321021.pdf; Supplier Part Number 1: EG4507-ND
footprint DIP Switch (SWITCH SLIDE DIP SPST 25MA 24V)
pins: 1, 2, 3, 4

## dip_swc_2
designator SW?
footprint dip_swc_2 (219-8MST)
pins: 1, 2, 3, 4

## EKZE500ELL681MK30S
designator C?
Aluminium Electrolytic Capacitors - Leaded 50volts 680uF 12.5X30; Manufacturer: United Chemi-Con; Tolerance: 20 %; Voltage Rating DC: 50 V; Case Diameter: 12.5 mm; Case Length: 30 mm; Supplier 1: Mouser; Manufacturer Part Number: EKZE500ELL681MK30S; RoHS: RoHS Compliant; Category: Aluminium Electrolytic Capacitors - Leaded; Stock 1: 2082; Pricing 1: 1=1.12, 10=0.886, 100=0.591, 500=0.502, 1000=0.443, 2000=0.413, 5000=0.398, 10000=0.384, 25000=0.374 (USD); Capacitance: 680 uF; Dimensions: 12.5 mm Dia. x 30 mm L; Packaging: Bulk; Product: Low Impedance Electrolytic Capacitors; Series: KZE; Termination Style: Radial; Brand: United Chemi-Con; Lead Spacing: 5 mm; Maximum Operating Temperature: + 105 C; Product Category: Aluminum Electrolytic Capacitors; Standard Pack Qty: 1000; RoHS - Mouser: Y; Minimum Order Quantity: 1; Reeling: False; ComponentLink1URL: http://www.mouser.com/ds/2/420/al-kze-e-140701-514740.pdf; ComponentLink1Description: http://www.mouser.com/ds/2/420/al-kze-e-140701-514740.pdf; Supplier Part Number 1: 661-EKZE500ELL681MK3
footprint HEADER,2PİN
pins: 1, 2

## G5NB-1A-4-24VDC
designator RL?
footprint N5GB
pins: 1 VCC-24, 2 NO_1, 3 NO_2, 4 GND_24

## IC - ADG794
designator U?, comment ADG794BRQZ  Supplier Part Number 1: ADG794BRQZ-ND
IC MUX/DEMUX QUAD 2X1 16QSOP; Manufacturer: Analog Devices Inc.; Switch Circuit: SPDT; Multiplexer/Demultiplexer Circuit: 2:1; Number of Circuits: 4; On-State Resistance (Max): 7 Ohm; Channel-to-Channel Matching (&Delta;Ron): 400 mOhm; Voltage - Supply, Single (V+): 3.3V, 5V; Switch Time (Ton, Toff) (Max): 7ns, 5ns (Typ); -3db Bandwidth: 300MHz; Charge Injection: 7.5pC; Channel Capacitance (CS(off), CD(off)): 8pF, 14pF; Current - Leakage (IS(off)) (Max): 1pA (Typ); Crosstalk: -70dB @ 10MHz; Supplier 1: Digi-Key; Manufacturer Part Number: ADG794BRQZ; RoHS: RoHS Compliant; Category: Integrated Circuits (ICs); Stock 1: 107; Pricing 1: 1=2.1, 98=1.77939, 196=1.51602, 588=1.24556, 1078=1.03204, 2548=0.96086, 5000=0.92528 (USD); Packaging: Tube; Part Status: Active; Voltage - Supply, Dual (V±): -; Operating Temperature: -40°C ~ 85°C (TA); Package / Case: 16-SSOP (0.154", 3.90mm Width); Supplier Device Package: 16-QSOP; ComponentLink1URL: http://www.analog.com/media/en/technical-documentation/data-sheets/ADG794.pdf; ComponentLink1Description: http://www.analog.com/media/en/technical-documentation/data-sheets/ADG794.pdf
footprint ADI-RQ-16_M (SOP, 16-Leads, Body 4.9x3.9mm, Pitch 0.64mm, IPC Low Density)
pins: 1 IN, 2 S1A, 3 S1B, 4 D1, 5 S2A, 6 S2B, 7 D2, 8 GND, 9 D3, 10 S3B, 11 S3A, 12 D4, 13 S4B, 14 S4A, 15 EN, 16 VDD

## IC - AMC1200BDWVR
designator U?, comment AMC1200BDWVR
Manufacturer: Texas Instruments; Amplifier Type: Isolation; Number of Circuits: 1; Output Type: Differential; -3db Bandwidth: 100kHz; Voltage - Input Offset: 200µV; Current - Supply: 5.4mA; Current - Output / Channel: 20mA; Voltage - Supply, Single/Dual (±): 2.7 V ~ 5.5 V; Supplier 1: Digi-Key; Manufacturer Part Number: AMC1200BDWVR; RoHS: RoHS Compliant; Category: Integrated Circuits (ICs); Stock 1: 3135; Pricing 1: 1=5.41, 10=4.851, 100=3.9798, 500=3.3858, 1000=2.475 (USD); Packaging: Cut Tape (CT); Part Status: Active; Slew Rate: -; Gain Bandwidth Product: -; Current - Input Bias: -; Operating Temperature: -40°C ~ 105°C; Mounting Type: Surface Mount; Package / Case: 8-SOIC (0.295", 7.50mm Width); Supplier Device Package: 8-SOIC; ComponentLink1URL: http://www.ti.com/lit/ds/symlink/amc1200.pdf; ComponentLink1Description: http://www.ti.com/lit/ds/symlink/amc1200.pdf; Supplier Part Number 1: 296-39898-1-ND
footprint TI-D8_N (SOIC, 8-Leads, Body 4.9x3.9mm, Pitch 1.27mm, IPC Medium Density)
pins: 1 VDD1 (power) "High-side power supply", 2 VINP (in) "Noninverting analog input", 3 VINN (in) "Inverting analog input", 4 GND1 (power) "High-side analog ground", 5 GND2 (power) "Low-side analog ground", 6 VOUTN (out) "Inverting analog output", 7 VOUTP (out) "Noninverting analog output", 8 VDD2 (power) "Low-side power supply"

## IC - DRV8825
designator U?
pins: 1 CP1, 2 CP2, 3 VCP, 4 VMA, 5 AOUT1, 6 ISENA, 7 AOUT2, 8 BOUT2, 9 ISENB, 10 BOUT1, 11 VMB, 12 AVREF, 13 BVREF, 14 GND, 15 V3P3, 16 nRESET, 17 nSLEEP, 18 nFAULT, 19 DECAY, 20 DIR, 21 nENBL, 22 STEP, 23 NC, 24 MODE0, 25 MODE1, 26 MODE2, 27 nHOME, 28 GND, 29

## IC-ACS 712
designator U?, comment SENSOR CURRENT HALL 5A AC/DC  (value not drawn)
ACS712ELCTR-05B-T; Manufacturer: Allegro MicroSystems, LLC; Sensor Type: Hall Effect, Open Loop; Number of Channels: 1; Output: Ratiometric, Voltage; Sensitivity: 185mV/A; Frequency: DC ~ 80kHz; Linearity: ±1.5%; Voltage - Supply: 5V; Response Time: 5µs; Current - Supply (Max): 13mA; Polarization: Bidirectional; RoHS: RoHS Compliant; Category: Sensors, Transducers; Packaging: Cut Tape (CT); For Measuring: AC/DC; Current - Sensing: 5A; Accuracy: ±1.5%; Operating Temperature: -40°C ~ 85°C; Mounting Type: Surface Mount; Package / Case: 8-SOIC (0.154", 3.90mm Width); ComponentLink1URL: http://www.allegromicro.com/en/Products/Part_Numbers/0712/0712.pdf; ComponentLink1Description: http://www.allegromicro.com/en/Products/Part_Numbers/0712/0712.pdf; Supplier 1: Digi-Key; Stock 1: 19223; Pricing 1: 1=4.82, 10=3.76, 50=2.6962, 100=2.6252, 250=2.41232, 500=2.19946, 1000=2.05755 (USD); Supplier Part Number 1: 620-1189-6-ND; Manufacturer Part Number: ACS712ELCTR-05B-T
footprint SOIC-8
pins: 1 IP1+, 2 IP2+, 3 IP1-, 4 IP2-, 5 GND, 6 FILTER, 7 VIOUT, 8 VCC

## IC-AD780ARZ
designator U?, comment Manufacturer Part Number: AD780ARZ-REEL7  (hidden comment: AD780ARZ)
IC VREF SERIES/SHUNT PROG 8SOIC; Manufacturer: Analog Devices Inc.; Reference Type: Series, Shunt; Output Type: Programmable; Voltage - Output (Min/Fixed): ±2.5V, ±3V; Current - Output: 10mA; Tolerance: ±0.2%, ±0.17%; Temperature Coefficient: 7ppm/°C; Noise - 0.1Hz to 10Hz: 4µVp-p; Voltage - Input: 4 V ~ 36 V; Current - Supply: 1mA; Supplier 1: Digi-Key; RoHS: RoHS Compliant; Category: Integrated Circuits (ICs); Stock 1: 1014; Pricing 1: 1=10.53, 10=9.545, 100=7.8685, 500=6.8796 (USD); Packaging: Cut Tape (CT); Voltage - Output (Max): -; Noise - 10Hz to 10kHz: -; Current - Cathode: 1mA; Operating Temperature: -40°C ~ 85°C (TA); Mounting Type: Surface Mount; Package / Case: 8-SOIC (0.154", 3.90mm Width); Supplier Device Package: 8-SOIC; ComponentLink1URL: http://www.analog.com/media/en/technical-documentation/data-sheets/AD780.pdf; ComponentLink1Description: http://www.analog.com/media/en/technical-documentation/data-sheets/AD780.pdf; Supplier Part Number 1: AD780ARZ-REEL7CT-ND
footprint SOIC-8
pins: 1 NC, 2 VIN, 3 TEMP, 4 GND, 5 TRIM, 6 VOUT, 7 NC, 8 OP/SLC

## IC-AD7124-4BCPZ
designator U?, comment AD7124-4BCPZ
IC ADC 24BIT 4CH TSSOP; Manufacturer: Analog Devices Inc.; Number of Bits: 24; Sampling Rate (Per Second): 19.2k; Number of Inputs: 4, 7; Input Type: Differential, Single Ended; Data Interface: SPI; Configuration: MUX-PGA-ADC; Number of A/D Converters: 1; Architecture: Sigma-Delta; Reference Type: External, Internal; Voltage - Supply, Analog: ±1.8V, 2.7 V ~ 3.6 V; Voltage - Supply, Digital: 1.65 V ~ 3.6 V; Supplier 1: Digi-Key; RoHS: RoHS Compliant; Category: Integrated Circuits (ICs); Stock 1: 46; Pricing 1: 1=10.3, 10=9.307, 100=7.7056, 500=6.70996, 1000=5.84415, 2500=5.6277, 5000=5.41125 (USD); Packaging: Tray; Part Status: Active; Ratio - S/H:ADC: -; Features: PGA, Temperature Sensor; Operating Temperature: -40°C ~ 105°C; Package / Case: 32-WFQFN Exposed Pad, CSP; Supplier Device Package: 32-LFCSP-WQ (5x5); ComponentLink1URL: http://www.analog.com/media/en/technical-documentation/data-sheets/AD7124-4.pdf; ComponentLink1Description: http://www.analog.com/media/en/technical-documentation/data-sheets/AD7124-4.pdf; Supplier 2: Digi-Key; Stock 2: 146; Pricing 2: 1=10.3, 62=8.87452, 124=7.70565, 558=6.70995, 1054=5.84415, 2542=5.6277, 5000=5.41125 (USD); Supplier Part Number 2: AD7124-4BRUZ-ND; Manufacturer Part Number: AD7124-4BCPZ
footprint ADI-RU-24_M (SOP, 24-Leads, Body 7.8x4.4mm, Pitch 0.65mm, IPC Low Density)
pins: 1 DIN, 2 SCLK, 3 CLK, 4 CS, 5 REGCAPD, 6 IOVDD, 7 DGND, 8 AIN0, 9 AIN1, 10 AIN2, 11 AIN3, 12 REFIN(+), 13 REFIN(-), 14 AIN4, 15 AIN5, 16 AIN6, 17 AIN7, 18 REFOUT, 19 AVSS, 20 REGCAPA, 21 PSW, 22 AVDD, 23 SYNC, 24 DOUT/RDY

## IC-AD7734BRUZ
designator U?, comment AD7734BRUZ
IC ADC 24BIT 4-CH 28-TSSOP; Manufacturer: Analog Devices Inc.; Number of Bits: 24; Sampling Rate (Per Second): 15.4k; Number of Inputs: 4; Input Type: Single Ended; Data Interface: SPI, DSP; Configuration: MUX-ADC; Number of A/D Converters: 1; Architecture: Sigma-Delta; Reference Type: External; Voltage - Supply, Analog: 5V; Voltage - Supply, Digital: 2.7 V ~ 3.6 V, 5V; Supplier 1: Digi-Key; RoHS: RoHS Compliant; Category: Integrated Circuits (ICs); Stock 1: 383; Pricing 1: 1=20.47, 10=18.882, 100=16.1242, 500=14.63904, 1000=13.7904, 2500=13.36608, 5000=13.056 (USD); Packaging: Tube; Ratio - S/H:ADC: -; Features: True Bipolar; Operating Temperature: -40°C ~ 105°C; Package / Case: 28-TSSOP (0.173", 4.40mm Width); Supplier Device Package: 28-TSSOP; ComponentLink1URL: http://www.analog.com/media/en/technical-documentation/data-sheets/AD7734.pdf; ComponentLink1Description: http://www.analog.com/media/en/technical-documentation/data-sheets/AD7734.pdf; Supplier Part Number 1: AD7734BRUZ-ND; Manufacturer Part Number: AD7734BRUZ
footprint TSSOP-28 (TSOP, 28-Leads, Body 9.7x4.4mm, Pitch 0.65mm, IPC High Density)
pins: 1 SCLK, 2 MCLKIN, 3 MCLKOUT, 4 CS, 5 RESET, 6 AVDD, 7 P0, 8 SYNC/P1, 9 INTBIAS, 10 MUX0, 11 BIAS0, 12 AIN0, 13 AIN1, 14 BIAS1, 15 BIAS2, 16 AIN2, 17 AIN3, 18 BIAS3, 19 BIASLO, 20 BIASHI, 21 REFIN(+), 22 REFIN(–), 23 AGND, 24 RDY, 25 DOUT, 26 DIN, 27 DVDD, 28 DGND

## IC-ADUM5401
designator U?, comment ADUM5401ARWZ-RL  (value not drawn)
DGTL ISO 2.5KV GEN PURP 16SOIC; Manufacturer: Analog Devices Inc.; Isolated Power: Yes; Number of Channels: 4; Inputs - Side 1/Side 2: 3/1; Channel Type: Unidirectional; Voltage - Isolation: 2500Vrms; Common Mode Transient Immunity (Min): 25kV/µs; Data Rate: 1Mbps; Propagation Delay tpLH / tpHL (Max): 100ns, 100ns; Pulse Width Distortion (Max): 40ns; Rise / Fall Time (Typ): 2.5ns, 2.5ns; Voltage - Supply: 3 V ~ 5.5 V; Supplier 1: Digi-Key; Manufacturer Part Number: ADUM5401ARWZ-RL; RoHS: RoHS Compliant; Category: Isolators; Stock 1: 2137; Pricing 1: 1=10.71, 10=9.818, 100=8.2883, 500=7.35092 (USD); Packaging: Cut Tape (CT); Part Status: Active; Technology: Magnetic Coupling; Type: General Purpose; Operating Temperature: -40°C ~ 105°C; Package / Case: 16-SOIC (0.295", 7.50mm Width); Supplier Device Package: 16-SOIC; ComponentLink1URL: http://www.analog.com/media/en/technical-documentation/data-sheets/ADuM5401_5402_5403_5404.pdf; ComponentLink1Description: http://www.analog.com/media/en/technical-documentation/data-sheets/ADuM5401_5402_5403_5404.pdf; Supplier Part Number 1: ADUM5401ARWZ-RLCT-ND
footprint ADI-RW-16_M (SOIC, 16-Leads, Body 10.3x7.5mm, Pitch 1.27mm, IPC Low Density)
pins: 1 VDD1, 2 GND1, 3 VIA, 4 VIB, 5 VIC, 6 VOD, 7 RCOUT, 8 GND1, 9 GNDISO, 10 VSEL, 11 VID, 12 VOC, 13 VOB, 14 VOA, 15 GNDISO, 16 VISO

## IC-CPC1017N
designator U?, comment CPC1017NTR
RELAY OPTOMOS SP-NO 100MA 4-SOP; Manufacturer: IXYS Integrated Circuits Division; Circuit: SPST-NO (1 Form A); Output Type: AC, DC; On-State Resistance (Max): 16 Ohm; Voltage - Input: 1.2VDC; Voltage - Load: 0 ~ 60 V; Supplier 1: Digi-Key; RoHS: RoHS Compliant; Category: Relays; Stock 1: 86000; Pricing 1: 2000=0.42, 6000=0.399, 10000=0.384, 50000=0.36 (USD); Packaging: Tape & Reel (TR); Part Status: Active; Load Current: 100mA; Mounting Type: Surface Mount; Termination Style: Gull Wing; Package / Case: 4-SOP (0.150", 3.81mm); Supplier Device Package: 4-SOP; Relay Type: Relay; ComponentLink1URL: http://www.ixysic.com/home/pdfs.nsf/www/CPC1017N.pdf/$file/CPC1017N.pdf; ComponentLink1Description: http://www.ixysic.com/home/pdfs.nsf/www/CPC1017N.pdf/$file/CPC1017N.pdf; Supplier Part Number 1: CLA233TR-ND; Manufacturer Part Number: CPC1017NTR
pins: 1, 2, 3, 4

## IC-DAC8760IPWPR
designator U?  Manufacturer Part Number: DAC8760IPWPR  (hidden comment: IC-DAC8760IPWPR)
IC DAC 1CH 16BIT PROGR 24HTSSOP; Manufacturer: Texas Instruments; Number of Bits: 16; Number of D/A Converters: 1; Settling Time: 25µs (Typ); Output Type: Voltage or Current - Buffered; Differential Output: No; Data Interface: SPI, DSP; Reference Type: External, Internal; Voltage - Supply, Analog: 10 V ~ 36 V, -18V; Voltage - Supply, Digital: 2.7 V ~ 5.5 V; INL/DNL (LSB): -, ±1 (Max); Architecture: String DAC; Supplier 1: Digi-Key; RoHS: RoHS Compliant; Category: Integrated Circuits (ICs); Stock 1: 386; Pricing 1: 1=8.8, 10=7.972, 100=6.5715, 500=5.7456, 1000=4.48875 (USD); Packaging: Cut Tape (CT); Operating Temperature: -40°C ~ 125°C; Package / Case: 24-TSSOP (0.173", 4.40mm Width) Exposed Pad; Supplier Device Package: 24-HTSSOP; ComponentLink1URL: http://www.ti.com/lit/ds/symlink/dac8760.pdf; ComponentLink1Description: http://www.ti.com/lit/ds/symlink/dac8760.pdf; Supplier Part Number 1: 296-37189-1-ND
footprint TSSOP-24
pins: 1 AVSS, 2 DVDD, 3 ALARM, 4 GND, 5 CLR-SEL, 6 CLR, 7 LATCH, 8 SCLK, 9 DIN, 10 SDO, 11 GND, 12 GND, 13 ISET-R, 14 REFOUT, 15 REFIN, 16 DVDD-EN, 17 CMP, 18 HART-IN, 19 IOUT, 20 BOOST , 21 VOUT, 22 +VSENSE, 23 –VSENSE, 24 AVDD, 25

## IC-ISA2415
designator U?, comment Manufacturer Part Number: ISA2415  (hidden comment: DC/DC CONV)
DC/DC CONV 1W SMD DUAL OUT; Manufacturer: XP Power; Number of Outputs: 2; Voltage - Input (Min): 21.6V; Voltage - Input (Max): 26.4V; Voltage - Output 1: 15V; Voltage - Output 2: -15V; Current - Output (Max): 33mA, 33mA; Voltage - Isolation: 1.5kV (1500V); Efficiency: 82%; Supplier 1: Digi-Key; RoHS: RoHS Compliant; Category: Power Supplies - Board Mount; Stock 1: 223; Pricing 1: 1=4.75, 5=4.61, 10=4.47, 25=4.28, 100=3.99, 500=3.71002 (USD); Packaging: Tube; Type: Isolated Module; Voltage - Output 3: -; Power (Watts) - Manufacture Series: 1W; Applications: ITE (Commercial); Features: SCP; Mounting Type: Surface Mount; Package / Case: 10-SMD Module (6 Leads); Size / Dimension: 0.60" L x 0.33" W x 0.29" H (15.2mm x 8.3mm x 7.3mm); Operating Temperature: -40°C ~ 105°C; Power (Watts) - Max: 1W; ComponentLink1URL: http://www.xppower.com/Portals/0/pdfs/SF_ISA.pdf; ComponentLink1Description: http://www.xppower.com/Portals/0/pdfs/SF_ISA.pdf; Supplier Part Number 1: 1470-2970-5-ND
footprint ISA2415 (DC DC Converter)
pins: 1 GND, 2 Vin+, 4 0V, 5 Vo-, 7 Vo+, 10 NC

## IC-ISE0305
designator DCDC?
DC/DC CONV 5V 1W; Manufacturer: XP Power; Manufacturer Part Number: ISE0305A; Number of Outputs: 1; Voltage - Input (Min): 2.97V; Voltage - Input (Max): 3.63V; Current - Output (Max): 200mA; Voltage - Isolation: 1.5kV (1500V); Efficiency: 74%; Supplier 1: Farnell; Supplier Part Number 1: 2475756; Supplier 2: Digi-Key; RoHS: RoHS Compliant; Category: Power Supplies - Board Mount; Stock 2: 44; Pricing 2: 1=4.25, 5=4.12, 10=4, 25=3.83, 100=3.57, 500=3.32 (USD); Packaging: Tube; Type: Isolated Module; Voltage - Output 1: 5V; Voltage - Output 2: -; Voltage - Output 3: -; Power (Watts) - Manufacture Series: 1W; Applications: ITE (Commercial); Features: SCP; Mounting Type: Surface Mount; Package / Case: 8-SMD Module (5 Leads); Size / Dimension: 0.50" L x 0.44" W x 0.29" H (12.7mm x 11.2mm x 7.3mm); Operating Temperature: -40°C ~ 105°C; Power (Watts) - Max: 1W; ComponentLink1URL: http://www.xppower.com/Portals/0/pdfs/SF_ISE.pdf; ComponentLink1Description: http://www.xppower.com/Portals/0/pdfs/SF_ISE.pdf; Supplier Part Number 2: 1470-2973-5-ND
footprint DC DC
pins: 1 GND, 2 VIN, 4 0V, 5 +Vout, 8 NC

## IC-ISH2415A
designator U?, comment ISH2415A
DC/DC CONV 2W SMD SNG OUT; Manufacturer: XP Power; Number of Outputs: 1; Voltage - Input (Min): 21.6V; Voltage - Input (Max): 26.4V; Voltage - Output 1: 15V; Current - Output (Max): 133mA; Voltage - Isolation: 1.5kV (1500V); Efficiency: 83%; Supplier 1: Digi-Key; RoHS: RoHS Compliant; Category: Power Supplies - Board Mount; Stock 1: 112; Pricing 1: 1=7.5, 5=7.28, 10=7.05, 25=6.75, 100=6.3, 500=5.85 (USD); Packaging: Tube; Type: Isolated Module; Voltage - Output 2: -; Voltage - Output 3: -; Power (Watts) - Manufacture Series: 2W; Applications: ITE (Commercial); Features: SCP; Mounting Type: Surface Mount; Package / Case: 8-SMD Module (5 Leads); Size / Dimension: 0.50" L x 0.44" W x 0.29" H (12.7mm x 11.2mm x 7.3mm); Operating Temperature: -40°C ~ 105°C; Power (Watts) - Max: 2W; ComponentLink1URL: http://www.xppower.com/Portals/0/pdfs/SF_ISH.pdf; ComponentLink1Description: http://www.xppower.com/Portals/0/pdfs/SF_ISH.pdf; Supplier Part Number 1: 1470-2998-5-ND; Manufacturer Part Number: ISH2415A
footprint DC DC
pins: 1 GND, 2 VIN, 4 0V, 5 +Vout, 8 NC

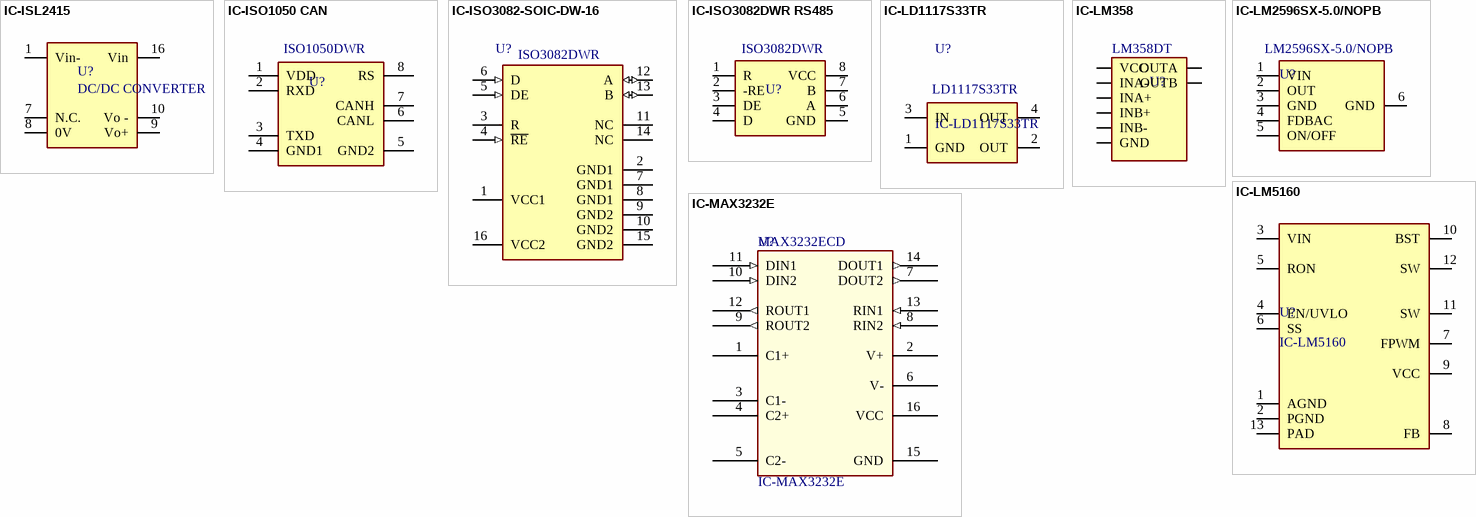
[diagram p3: symbols IC-ISL2415 to IC-MAX3232E]

## IC-ISL2415
designator U?, comment DC/DC CONVERTER
DC/DC CONVERTER +/-15V 1.5W
pins: 1 Vin-, 7 N.C., 8 0V, 9 Vo+, 10 Vo -, 16 Vin

## IC-ISO1050 CAN
designator U?, comment Manufacturer Part Number: ISO1050DWR  (hidden comment: ISOLATED CAN 5V)
IC TXRX ISOLATED CAN 5V 16SOIC; Manufacturer: Texas Instruments; Number of Drivers/Receivers: 1/1; Duplex: Half; Receiver Hysteresis: 150mV; Data Rate: 1Mbps; Voltage - Supply: 3 V ~ 5.5 V; Supplier 1: Digi-Key; RoHS: RoHS Compliant; Category: Integrated Circuits (ICs); Stock 1: 5574; Pricing 1: 1=5.9, 10=5.292, 100=4.3416, 500=3.6936, 1000=2.7 (USD); Packaging: Digi-Reel®; Type: Transceiver; Protocol: CAN; Operating Temperature: -55°C ~ 105°C; Mounting Type: Surface Mount; Package / Case: 16-SOIC (0.295", 7.50mm Width); Supplier Device Package: 16-SOIC; ComponentLink1URL: http://www.ti.com/lit/ds/symlink/iso1050.pdf; ComponentLink1Description: http://www.ti.com/lit/ds/symlink/iso1050.pdf; Supplier Part Number 1: 296-41267-6-ND
footprint so8_w_dub (SO8_W_DUB)
pins: 1 VDD, 2 RXD, 3 TXD, 4 GND1, 5 GND2, 6 CANL, 7 CANH, 8 RS

## IC-ISO3082-SOIC-DW-16
designator U?, comment Manufacturer Part Number: ISO3082DWR  (hidden comment: ISO3082)
DG ISO 2.5KV RS422/RS485 16SOIC; Manufacturer: Texas Instruments; Isolated Power: No; Number of Channels: 3; Inputs - Side 1/Side 2: 2/1; Channel Type: Unidirectional; Voltage - Isolation: 2500Vrms; Common Mode Transient Immunity (Min): 25kV/µs; Data Rate: 200kbps; Voltage - Supply: 3.15 V ~ 5.5 V, 4.5 V ~ 5.5 V; Supplier 1: Digi-Key; RoHS: RoHS Compliant; Category: Isolators; Stock 1: 9564; Pricing 1: 1=6.39, 10=5.733, 100=4.7034, 500=4.0014, 1000=2.925 (USD); Packaging: Digi-Reel®; Technology: Capacitive Coupling; Type: RS422, RS485; Propagation Delay tpLH / tpHL (Max): -; Pulse Width Distortion (Max): -; Rise / Fall Time (Typ): -; Operating Temperature: -40°C ~ 85°C; Package / Case: 16-SOIC (0.295", 7.50mm Width); Supplier Device Package: 16-SOIC; ComponentLink1URL: http://www.ti.com/lit/ds/symlink/iso3082.pdf; ComponentLink1Description: http://www.ti.com/lit/ds/symlink/iso3082.pdf; Supplier Part Number 1: 296-37891-6-ND
footprint DW16_L (SOIC, 16-Leads, Body 10.3x7.5mm, Pitch 1.27mm, IPC High Density)
pins: 1 VCC1 (power), 2 GND1 (power), 3 R (hiz), 4 ~{RE} (in), 5 DE (in), 6 D (in), 7 GND1 (power), 8 GND1 (power), 9 GND2 (power), 10 GND2 (power), 11 NC, 12 A (io), 13 B (io), 14 NC, 15 GND2 (power), 16 VCC2 (power)

## IC-ISO3082DWR RS485
designator U?  Manufacturer Part Number: ISO3082DWR
DG ISO 2.5KV RS422/RS485 16SOIC; Manufacturer: Texas Instruments; Isolated Power: No; Number of Channels: 3; Inputs - Side 1/Side 2: 2/1; Channel Type: Unidirectional; Voltage - Isolation: 2500Vrms; Common Mode Transient Immunity (Min): 25kV/µs; Data Rate: 200kbps; Voltage - Supply: 3.15 V ~ 5.5 V, 4.5 V ~ 5.5 V; Supplier 1: Digi-Key; RoHS: RoHS Compliant; Category: Isolators; Stock 1: 9564; Pricing 1: 1=6.39, 10=5.733, 100=4.7034, 500=4.0014, 1000=2.925 (USD); Packaging: Digi-Reel®; Technology: Capacitive Coupling; Type: RS422, RS485; Propagation Delay tpLH / tpHL (Max): -; Pulse Width Distortion (Max): -; Rise / Fall Time (Typ): -; Operating Temperature: -40°C ~ 85°C; Package / Case: 16-SOIC (0.295", 7.50mm Width); Supplier Device Package: 16-SOIC; ComponentLink1URL: http://www.ti.com/lit/ds/symlink/iso3082.pdf; ComponentLink1Description: http://www.ti.com/lit/ds/symlink/iso3082.pdf; Supplier Part Number 1: 296-37891-6-ND
footprint SOIC-8
pins: 1 R, 2 -RE, 3 DE, 4 D, 5 GND, 6 A, 7 B, 8 VCC